# EAGLE library part TL074 (library TL074)
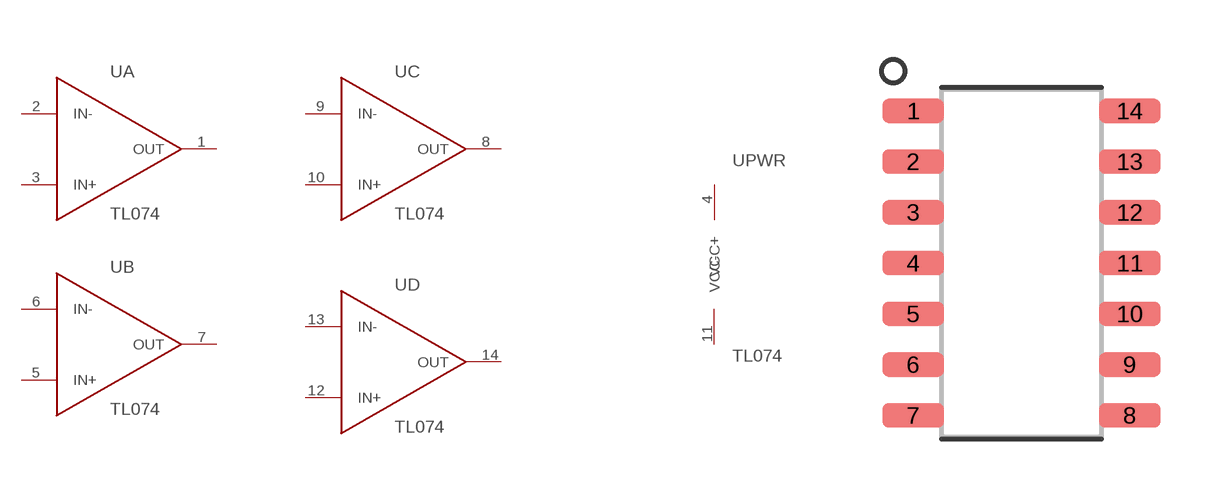
[diagram p0: symbol with the pads of SO-14; footprint SO-14]

Designator prefix -; gates A=TL074_OPAMP B=TL074_OPAMP C=TL074_OPAMP D=TL074_OPAMP PWR=TL074_PWR

## TL074  [SO-14]
1  A:OUT  pas
2  A:IN-  pas
3  A:IN+  pas
4  PWR:VCC+  pwr
5  B:IN+  pas
6  B:IN-  pas
7  B:OUT  pas
8  C:OUT  pas
9  C:IN-  pas
10  C:IN+  pas
11  PWR:VCC-  pwr
12  D:IN+  pas
13  D:IN-  pas
14  D:OUT  pas

## Footprint SO-14 (pad centres in mm)
smd 1.549 x 0.61: 1 -2.7,3.81; 2 -2.7,2.54; 3 -2.7,1.27; 4 -2.7,0; 5 -2.7,-1.27; 6 -2.7,-2.54; 7 -2.7,-3.81; 8 2.71,-3.81; 9 2.71,-2.54; 10 2.71,-1.27; 11 2.71,0; 12 2.71,1.27; 13 2.71,2.54; 14 2.71,3.81